# EAGLE library part MC14504BDR2G (library ON_Semiconductor_By_element14_Batch_1)
Hex Level Shifter for TTL to CMOS or CMOS to CMOS
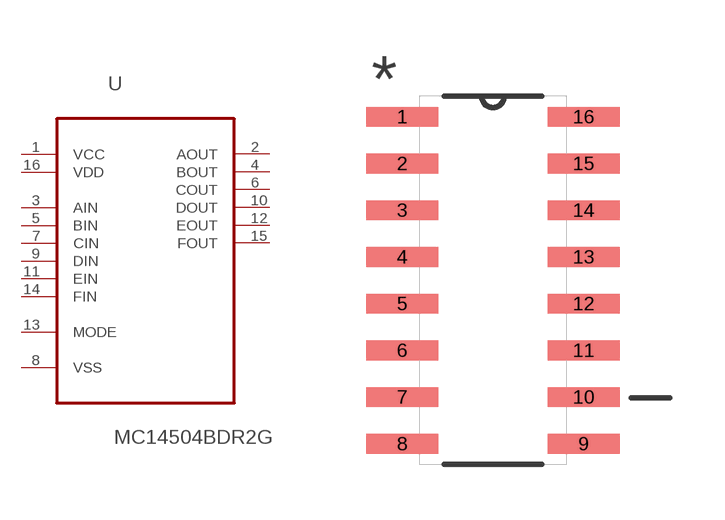
[diagram p276: symbol with the pads of SOIC127P600X175-16N; footprint SOIC127P600X175-16N]

Designator prefix U

## MC14504BDR2G (MPN: MC14504BDR2G; OC_FARNELL: 1273197; OC_NEWARK: 84K8754; PACKAGE: SOIC-16; SUPPLIER: ON SEMICONDUCTOR)  [SOIC127P600X175-16N]
1  VCC  pwr
2  AOUT  out
3  AIN  in
4  BOUT  out
5  BIN  in
6  COUT  out
7  CIN  in
8  VSS  pas
9  DIN  in
10  DOUT  out
11  EIN  in
12  EOUT  out
13  MODE  in
14  FIN  in
15  FOUT  out
16  VDD  pwr

## Footprint SOIC127P600X175-16N (pad centres in mm)
smd 1.956 x 0.533: 1 -2.464,4.445; 2 -2.464,3.175; 3 -2.464,1.905; 4 -2.464,0.635; 5 -2.464,-0.635; 6 -2.464,-1.905; 7 -2.464,-3.175; 8 -2.464,-4.445; 9 2.464,-4.445; 10 2.464,-3.175; 11 2.464,-1.905; 12 2.464,-0.635; 13 2.464,0.635; 14 2.464,1.905; 15 2.464,3.175; 16 2.464,4.445